# Altium schematic symbol library [SEN0515][M027.00702]Fermion ENS160 Sensor(V1.0.0).SchLib: 1 symbol
Pins are listed as number, name and electrical type; pins without a type are passive.

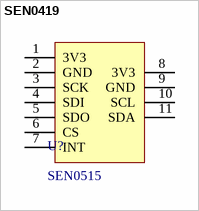
[diagram p0: symbol SEN0419]

## SEN0419
designator U?, comment SEN0515
footprint SEN0419
pins: 1 3V3, 2 GND, 3 SCK, 4 SDI, 5 SDO, 6 CS, 7 INT, 8 3V3, 9 GND, 10 SCL, 11 SDA